# EAGLE library part LPC1114FBD48 (library ic)
32位ARM Cortex-M0处理器
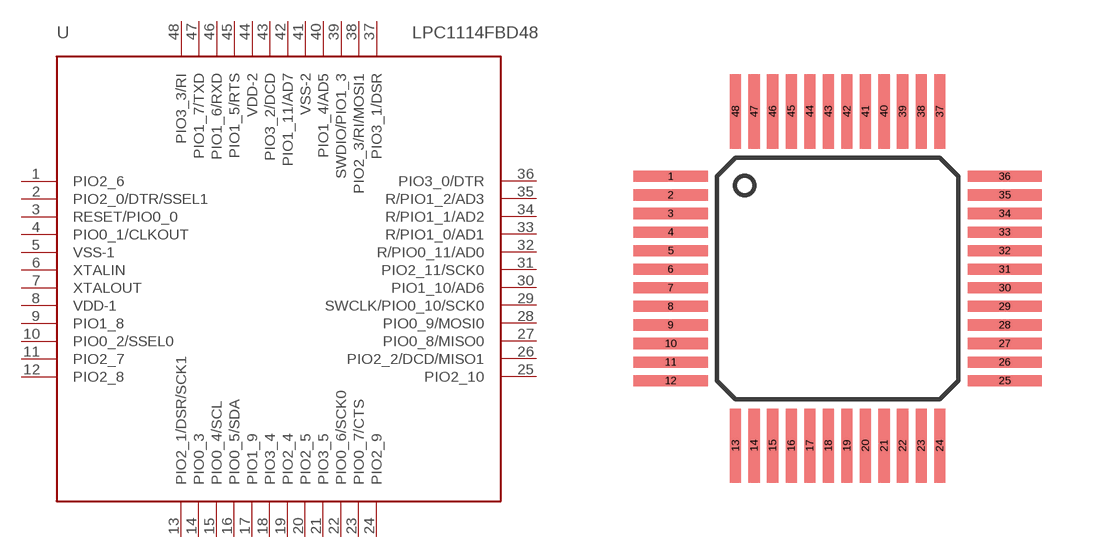
[diagram p2: symbol with the pads of LQFP48-P-370-0.5A; footprint LQFP48-P-370-0.5A]

Designator prefix U

## LPC1114FBD48  [LQFP48-P-370-0.5A]
1  PIO2_6
2  PIO2_0/DTR/SSEL1
3  RESET/PIO0_0
4  PIO0_1/CLKOUT
5  VSS-1
6  XTALIN
7  XTALOUT
8  VDD-1
9  PIO1_8
10  PIO0_2/SSEL0
11  PIO2_7
12  PIO2_8
13  PIO2_1/DSR/SCK1
14  PIO0_3
15  PIO0_4/SCL
16  PIO0_5/SDA
17  PIO1_9
18  PIO3_4
19  PIO2_4
20  PIO2_5
21  PIO3_5
22  PIO0_6/SCK0
23  PIO0_7/CTS
24  PIO2_9
25  PIO2_10
26  PIO2_2/DCD/MISO1
27  PIO0_8/MISO0
28  PIO0_9/MOSI0
29  SWCLK/PIO0_10/SCK0
30  PIO1_10/AD6
31  PIO2_11/SCK0
32  R/PIO0_11/AD0
33  R/PIO1_0/AD1
34  R/PIO1_1/AD2
35  R/PIO1_2/AD3
36  PIO3_0/DTR
37  PIO3_1/DSR
38  PIO2_3/RI/MOSI1
39  SWDIO/PIO1_3
40  PIO1_4/AD5
41  VSS-2
42  PIO1_11/AD7
43  PIO3_2/DCD
44  VDD-2
45  PIO1_5/RTS
46  PIO1_6/RXD
47  PIO1_7/TXD
48  PIO3_3/RI

## Footprint LQFP48-P-370-0.5A (pad centres in mm)
LQFP-48
smd 2 x 0.3: 1 -4.5,2.75; 2 -4.5,2.25; 3 -4.5,1.75; 4 -4.5,1.25; 5 -4.5,0.75; 6 -4.5,0.25; 7 -4.5,-0.25; 8 -4.5,-0.75; 9 -4.5,-1.25; 10 -4.5,-1.75; 11 -4.5,-2.25; 12 -4.5,-2.75; 25 4.5,-2.75; 26 4.5,-2.25; 27 4.5,-1.75; 28 4.5,-1.25; 29 4.5,-0.75; 30 4.5,-0.25; 31 4.5,0.25; 32 4.5,0.75; 33 4.5,1.25; 34 4.5,1.75; 35 4.5,2.25; 36 4.5,2.75
smd 0.3 x 2: 13 -2.75,-4.5; 14 -2.25,-4.5; 15 -1.75,-4.5; 16 -1.25,-4.5; 17 -0.75,-4.5; 18 -0.25,-4.5; 19 0.25,-4.5; 20 0.75,-4.5; 21 1.25,-4.5; 22 1.75,-4.5; 23 2.25,-4.5; 24 2.75,-4.5; 37 2.75,4.5; 38 2.25,4.5; 39 1.75,4.5; 40 1.25,4.5; 41 0.75,4.5; 42 0.25,4.5; 43 -0.25,4.5; 44 -0.75,4.5; 45 -1.25,4.5; 46 -1.75,4.5; 47 -2.25,4.5; 48 -2.75,4.5